# Altium footprint library F_POWER_V0.PcbLib: 27 footprints (part 1 of 2)
Each footprint in its own frame and in the unit in brackets; x right, y up, seen from the top. Pads: shape width x height; smd on the part's side, far side on the other; paste and mask are expansions set on the pad; w line width, h text height; cw(c..) or ccw(c..) is an arc to the next point about the centre after c.
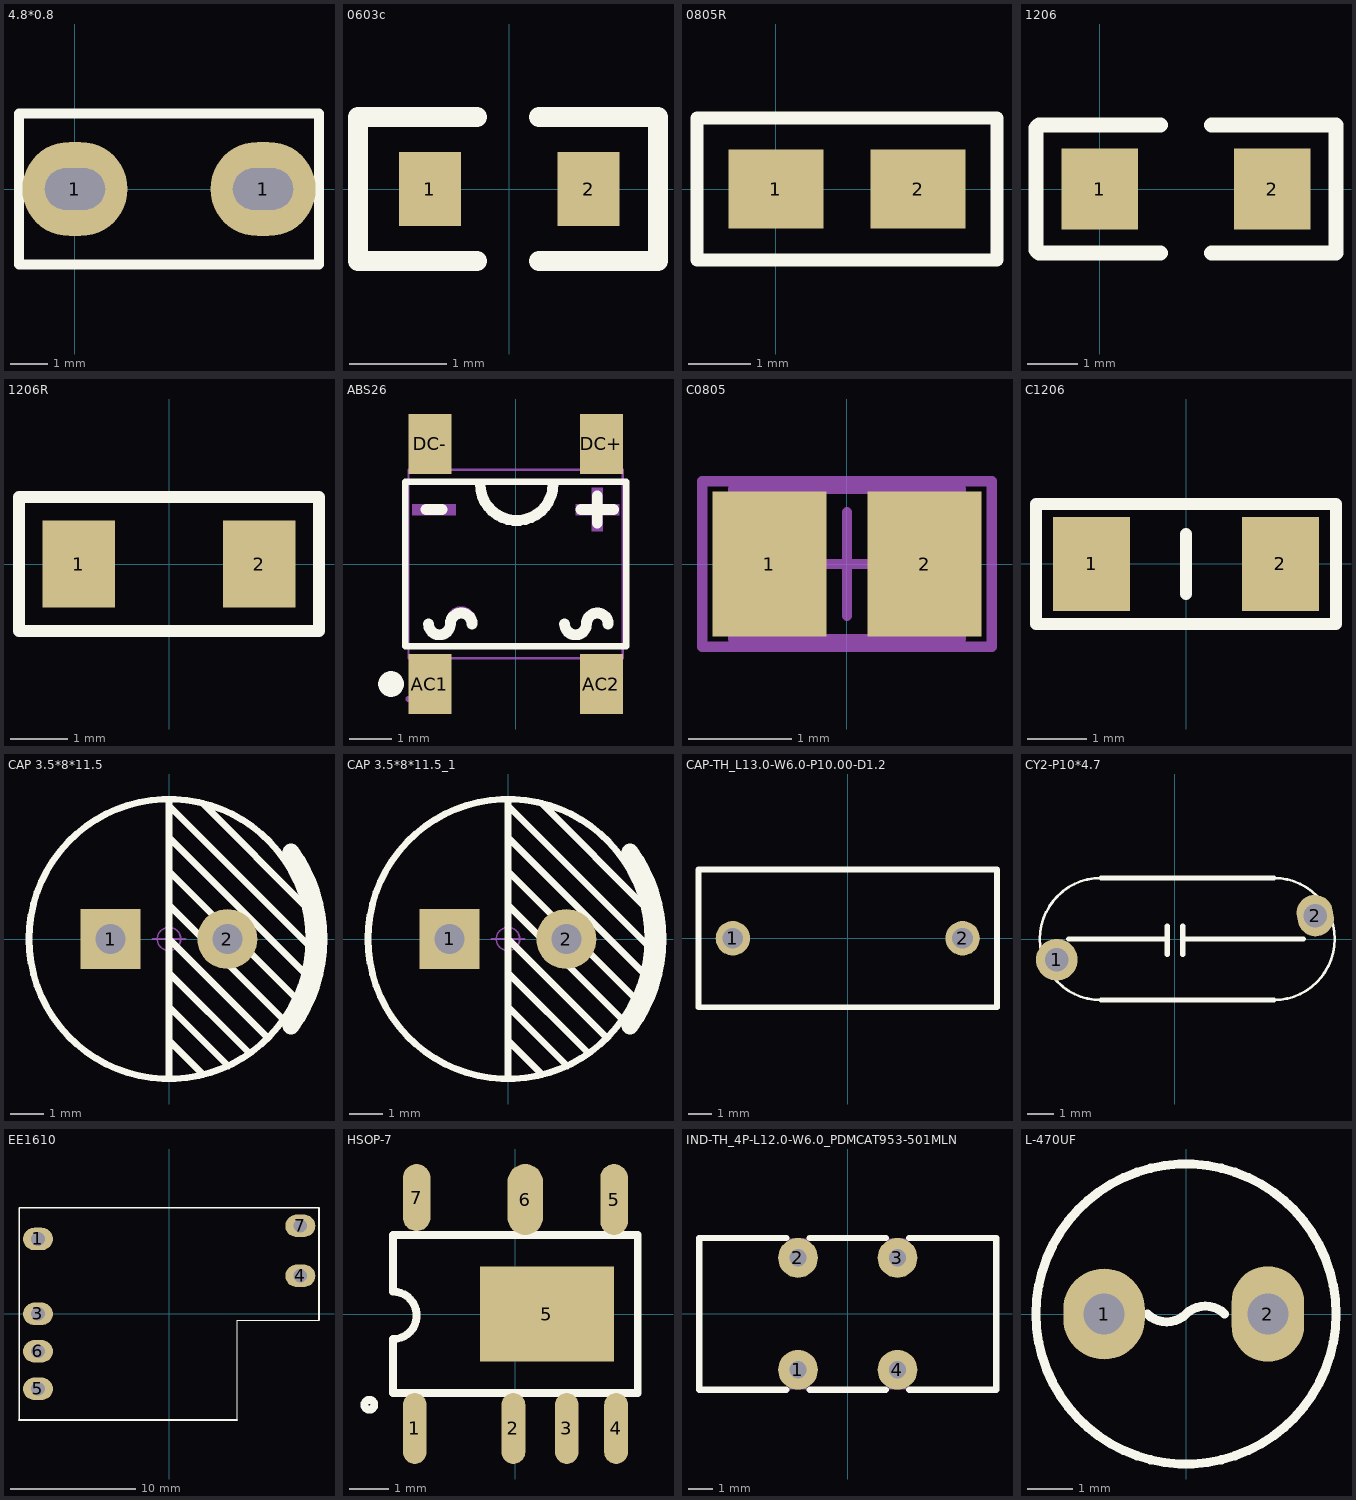
[diagram p0: the footprints below, top view; thin cyan lines are the x and y axes]

## 4.8*0.8 [mm]
pads (2):
  oval 2.8x2.5 hole 1.1 slot 1.6 at 0 deg: 1(0,0) 1(5,0)
Top Overlay:
  lines w0.254: -1.488,-2.007 6.488,-2.007 6.488,2.007 -1.488,2.007 -1.488,-2.007
3D body: height 9.3, standoff 0, extent 0,-0.41 5.14,0.39
3D body: height 2.3, standoff 0, extent -1.52,-0.41 6.49,0.39

## 0603c [mil] "1.6mmx0.8mm（蒜米工坊）"
height 19.68
pads (2):
  rect 25x30 smd: 1(-32,0) 2(32,0)
Top Overlay:
  lines w8: -13,-29 -61,-29 -61,29 -13,29 ; 12,-29 60,-29 60,29 12,29
3D body "R0603.STEP": height 17.72, standoff 0, extent -32.5,-15.75 30.5,15.75

## 0805R [mil]
height 43.31
pads (2):
  rect 60x50 smd: 1(0,0) 2(90,0)
Top Overlay:
  lines w8: -50,-45 65,-45 140,-45 140,45 65,45 -50,45 -50,-45
3D body "R0805.STEP": height 21.65, standoff 0, extent 4.63,-24.8 83.37,24.8

## 1206 [mm]
height 1.1
pads (2):
  rect 1.52x1.6 smd: 1(0,0) 2(3.42,0)
Top Overlay:
  lines w0.305: 1.202,-1.27 -1.211,-1.27 -1.27,-1.211 -1.27,1.211 -1.211,1.27 1.202,1.27 ; 2.218,-1.27 4.69,-1.27 4.69,1.27 2.218,1.27

## 1206R [mil]
height 43.31
pads (2):
  rect 50x60 smd: 1(-62,0) 2(62,0)
Top Overlay:
  lines w8: -103,-46 -103,46 40,46 103,46 103,-46 40,-46 -103,-46
3D body "R1206.STEP": height 23.62, standoff 0, extent -63.99,-32.49 62,30.5

## ABS26 [mm]
pads (4):
  rect 1x1.4 smd: AC1(-2,-2.8) AC2(2,-2.8) DC+(2,2.8) DC-(-2,2.8)
Top Overlay:
  circle w0.3: c-2.907,-2.8 r0.15
  lines w0.152: -2.576,-1.921 2.576,-1.921 2.576,1.921 -2.576,1.921 -2.576,-1.921
  lines w0.254: -2.095,1.27 -1.714,1.27 ; -2.032,-1.397 ccw(c-1.778,-1.397) -1.524,-1.397 cw(c-1.27,-1.397) -1.016,-1.397 ; -0.827,1.866 ccw(c0.023,1.866) 0.873,1.866 ; 1.143,-1.397 ccw(c1.397,-1.397) 1.651,-1.397 cw(c1.905,-1.397) 2.159,-1.397 ; 1.524,1.27 2.286,1.27 ; 1.905,0.953 1.905,1.587
Mechanical 6:
  circle w0.3: c-2,-2.9 r0.15
  region: -2.286,1.397 -1.397,1.397 -1.397,1.143 -2.413,1.143 -2.413,1.397
  region: 1.778,0.889 1.778,1.778 2.032,1.778 2.032,0.762 1.778,0.762
  region: 1.524,1.397 2.413,1.397 2.413,1.143 1.397,1.143 1.397,1.397
  region: 1.25,-1.4 1.1,-1.4 1.1,-1.45 1.1,-1.51 1.146,-1.62 1.23,-1.704 1.34,-1.75 1.4,-1.75 1.45,-1.75 1.51,-1.75 1.62,-1.704 1.704,-1.62 1.75,-1.51 1.75,-1.45 1.75,-1.4 1.6,-1.4 1.6,-1.45 1.597,-1.479 1.575,-1.533 1.533,-1.575 1.479,-1.597 1.45,-1.6 1.4,-1.6 1.371,-1.597 1.317,-1.575 1.275,-1.533 1.253,-1.479 1.25,-1.45
  region: 1.6,-1.4 1.6,-1.35 1.6,-1.29 1.646,-1.18 1.73,-1.096 1.84,-1.05 1.9,-1.05 1.95,-1.05 2.01,-1.05 2.12,-1.096 2.204,-1.18 2.25,-1.29 2.25,-1.35 2.25,-1.4 2.1,-1.4 2.1,-1.35 2.097,-1.321 2.075,-1.267 2.033,-1.225 1.979,-1.203 1.95,-1.2 1.9,-1.2 1.871,-1.203 1.817,-1.225 1.775,-1.267 1.753,-1.321 1.75,-1.35 1.75,-1.4
  region: -1.6,-1.35 -1.6,-1.3 -1.6,-1.24 -1.554,-1.13 -1.47,-1.046 -1.36,-1 -1.3,-1 -1.25,-1 -1.19,-1 -1.08,-1.046 -0.996,-1.13 -0.95,-1.24 -0.95,-1.3 -0.95,-1.35 -1.1,-1.35 -1.1,-1.3 -1.103,-1.271 -1.125,-1.217 -1.167,-1.175 -1.221,-1.153 -1.25,-1.15 -1.3,-1.15 -1.329,-1.153 -1.383,-1.175 -1.425,-1.217 -1.447,-1.271 -1.45,-1.3 -1.45,-1.35
  region: -1.95,-1.35 -2.1,-1.35 -2.1,-1.4 -2.1,-1.46 -2.054,-1.57 -1.97,-1.654 -1.86,-1.7 -1.8,-1.7 -1.75,-1.7 -1.69,-1.7 -1.58,-1.654 -1.496,-1.57 -1.45,-1.46 -1.45,-1.4 -1.45,-1.35 -1.6,-1.35 -1.6,-1.4 -1.603,-1.429 -1.625,-1.483 -1.667,-1.525 -1.721,-1.547 -1.75,-1.55 -1.8,-1.55 -1.829,-1.547 -1.883,-1.525 -1.925,-1.483 -1.947,-1.429 -1.95,-1.4
Mechanical 15:
  region: 1.675,2.66 1.675,2.19 2.325,2.19 2.325,2.66
  region: 1.675,3.15 1.675,2.65 2.325,2.65 2.325,3.15
  region: -2.325,2.66 -2.325,2.19 -1.675,2.19 -1.675,2.66
  region: -2.325,3.15 -2.325,2.65 -1.675,2.65 -1.675,3.15
  region: 1.675,-2.66 1.675,-2.19 2.325,-2.19 2.325,-2.66
  region: 1.675,-3.15 1.675,-2.65 2.325,-2.65 2.325,-3.15
  region: -2.325,-2.66 -2.325,-2.19 -1.675,-2.19 -1.675,-2.66
  region: -2.325,-3.15 -2.325,-2.65 -1.675,-2.65 -1.675,-3.15
  region: -2.44,-3.15 -2.44,-3.175 -2.475,-3.21 -2.525,-3.21 -2.56,-3.175 -2.56,-3.15 -2.56,-3.125 -2.525,-3.09 -2.475,-3.09 -2.44,-3.125
  lines w0.051: -2.5,-2.2 2.5,-2.2 2.5,2.2 -2.5,2.2 -2.5,-2.2
3D body: height 1.5, standoff 0, extent -2.59,-2.91 2.58,2.7

## C0805 [mm] "Chip Capacitor, Body 2.0x1.3mm, IPC High Density"
height 1.4
pads (2):
  rect 1.1x1.4 smd: 1(-0.75,0) 2(0.75,0)
Mechanical 13:
  lines w0.1: -1.1,-0.725 -1.1,0.725 1.1,0.725 1.1,-0.725 -1.1,-0.725
Mechanical 15:
  lines w0.1: -0.5,0 0.5,0 ; 0,-0.5 0,0.5 ; -1.4,-0.8 -1.4,0.8 1.4,0.8 1.4,-0.8 -1.4,-0.8
3D body: height 1.4, standoff 0, extent -1.1,-0.725 1.1,0.725

## C1206 [mm]
pads (2):
  rect 1.3x1.6 smd: 1(-1.6,0) 2(1.6,0)
Top Overlay:
  lines w0.2: 0,-0.508 0,0.508 ; -2.54,-1.016 2.54,-1.016 2.54,1.016 -2.54,1.016 -2.54,-1.016
3D body "User Library-1206_Cap.step": height 1.25, standoff 0, extent -1.6,-0.8 1.6,0.8

## CAP 3.5*8*11.5 [mm] "脚距3.5mm直径8mm高度11.5mm"
height 1.1
pads (2):
  rect 1.8x1.8 hole 0.9: 1(-1.75,0)
  round 1.8 hole 0.9: 2(1.75,0)
Top Overlay:
  circle w0.2: c0,0 r4.2
  lines w0.2: 0,-4.191 0,4 ; 0,-3.048 1.016,-4.064 ; 0,-2.032 1.778,-3.81 ; 0,-1.016 2.413,-3.429 ; 0,0 2.921,-2.921 ; 0,1.016 3.429,-2.413 ; 0,2.032 3.81,-1.778 ; 0,3.048 4.064,-1.016 ; 0,4.191 0,4 ; 1.016,4.064 4.191,0.889 ; 4.191,-0.127 4.127,-0.127 0,4
  lines w0.504: 3.663,-2.616 ccw(c0,0) 3.663,2.616
Mechanical 15:
  circle w0.05: c0,0 r0.35
  lines w0.05: -0.5,0 0.5,0 ; 0,-0.5 0,0.5
3D body "CAP 3.5X8X11.5.STEP": height 11.53, standoff -3.38, extent -4,-4 4.01,4

## CAP 3.5*8*11.5_1 [mm] "脚距3.5mm直径8mm高度11.5mm"
pads (2):
  rect 1.8x1.8 hole 0.9: 1(-1.75,0)
  round 1.8 hole 0.9: 2(1.75,0)
Top Overlay:
  circle w0.2: c0,0 r4.2
  lines w0.2: 0,-4.191 0,4 ; 0,-3.048 1.016,-4.064 ; 0,-2.032 1.778,-3.81 ; 0,-1.016 2.413,-3.429 ; 0,0 2.921,-2.921 ; 0,1.016 3.429,-2.413 ; 0,2.032 3.81,-1.778 ; 0,3.048 4.064,-1.016 ; 0,4.191 0,4 ; 1.016,4.064 4.191,0.889 ; 4.191,-0.127 4.127,-0.127 0,4
  lines w0.504: 3.663,-2.616 ccw(c0,0) 3.663,2.616
Mechanical 15:
  circle w0.05: c0,0 r0.35
  lines w0.05: -0.5,0 0.5,0 ; 0,-0.5 0,0.5
3D body "CAP 3.5X8X11.5.STEP": height 11.53, standoff -3.38, extent -4,-4 4.01,4

## CAP-TH_L13.0-W6.0-P10.00-D1.2 [mm]
pads (2):
  round 1.5 hole 0.9: 1(-5,0) 2(5,0)
Top Overlay:
  lines w0.254: -6.5,-3 6.5,-3 6.5,3 -6.5,3 -6.5,-3
Mechanical 15:
  region: -6.44,-3 -6.44,-2.975 -6.475,-2.94 -6.525,-2.94 -6.56,-2.975 -6.56,-3 -6.56,-3.025 -6.525,-3.06 -6.475,-3.06 -6.44,-3.025
  region: 5.3,0 5.299,0.059 5.252,0.167 5.168,0.25 5.059,0.294 4.941,0.294 4.832,0.25 4.748,0.167 4.701,0.059 4.7,0 4.701,-0.059 4.748,-0.167 4.832,-0.25 4.941,-0.294 5.059,-0.294 5.168,-0.25 5.252,-0.167 5.299,-0.059
  region: -4.7,0 -4.701,0.059 -4.748,0.167 -4.832,0.25 -4.941,0.294 -5.059,0.294 -5.168,0.25 -5.252,0.167 -5.299,0.059 -5.3,0 -5.299,-0.059 -5.252,-0.167 -5.168,-0.25 -5.059,-0.294 -4.941,-0.294 -4.832,-0.25 -4.748,-0.167 -4.701,-0.059
  lines w0.051: -6.5,-3 -6.5,3 6.5,3 6.5,-3 -6.5,-3
3D body: height 12.5, standoff 0, extent -6.47,-2.97 6.51,2.94

## CY2-P10*4.7 [mm]
pads (2):
  round 1.6 hole 0.9: 1(-4.55,-0.8)
  oval 1.4x1.6 hole 0.9 rot 10: 2(5.4,0.9)
Top Overlay:
  lines w0.1: -2.85,-2.35 cw(c-2.85,0) -2.85,2.35 ; 3.8,-2.35 ccw(c3.8,0) 3.8,2.35
  lines w0.2: -4.1,0 -0.3,0 ; -2.85,-2.35 3.8,-2.35 ; -2.85,2.35 3.8,2.35 ; -0.3,-0.6 -0.3,0.5 ; 0.3,-0.6 0.3,0.5 ; 0.3,0 4.95,0
3D body: height 8, standoff 0, extent -4.96,-2.12 5.88,2.13

## EE1610 [mm]
pads (7):
  oval 2.4x1.8 hole 1.1: 1(-10.5,6) 3(-10.5,0) 5(-10.5,-6) 7(10.5,7.05)
  round 0 all layers, no hole: 2(-10.5,3)
  oval 2.4x1.8 hole 1.1 paste+0: 4(10.5,3.05) 6(-10.5,-3)
Top Overlay:
  lines w0.1: 5.44,-8.5 5.44,-0.5 11.97,-0.5 12,-0.53
  lines w0.127: -12.02,-8.5 5.44,-8.5 ; -12,-8.52 -12,8.48 -11.98,8.5 11.99,8.5 ; 12,-0.5 12,8.5
Keep-Out Layer:
  lines w0.1: 3.1,-8.49 3.15,-8.49 3.16,-8.48
3D body: height 15.5, standoff 0, extent -12,-8.51 11.97,8.51

## HSOP-7 [mm]
pads (8):
  oval 0.6x1.8 smd: 1(-2.55,-2.9) 2(-0.05,-2.9) 3(1.3,-2.9) 4(2.55,-2.9)
  rect 3.4x2.4 smd: 5(0.8,0)
  oval 0.7x1.8 smd: 5(2.5,2.9)
  oval 0.9x1.8 smd: 6(0.25,2.9)
  oval 0.7x1.7 smd: 7(-2.5,2.95)
Top Overlay:
  circle w0.2: c-3.7,-2.3 r0.125
  lines w0.2: -3.1,0.565 cw(c-3.1,-0.035) -3.1,-0.635 -3.1,-2 3.1,-2 3.1,2 -3.1,2 -3.1,0.635
3D body: height 2.5, standoff 0, extent -3.175,-2.667 3.302,2.54

## IND-TH_4P-L12.0-W6.0_PDMCAT953-501MLN [mm]
height 1.1
pads (4):
  round 1.6 hole 0.7: 1(-2,-2.25) 2(-2,2.25) 3(2,2.25) 4(2,-2.25)
Top Overlay:
  lines w0.254: -2.477,-3.048 -5.969,-3.048 -5.969,3.048 -2.477,3.048 ; -1.523,-3.048 1.523,-3.048 ; -1.523,3.048 1.523,3.048 ; 2.477,-3.048 5.969,-3.048 5.969,3.048 2.477,3.048
Mechanical 15:
  region: -5.94,-3 -5.94,-2.975 -5.975,-2.94 -6.025,-2.94 -6.06,-2.975 -6.06,-3 -6.06,-3.025 -6.025,-3.06 -5.975,-3.06 -5.94,-3.025
  region: 2.25,-2.25 2.25,-2.201 2.211,-2.109 2.141,-2.04 2.049,-2.002 1.95,-2.002 1.859,-2.04 1.789,-2.109 1.75,-2.201 1.75,-2.25 1.75,-2.3 1.789,-2.391 1.859,-2.461 1.951,-2.498 2.05,-2.498 2.141,-2.46 2.211,-2.391 2.25,-2.3
  region: 2.25,2.25 2.25,2.299 2.211,2.391 2.141,2.46 2.049,2.498 1.95,2.498 1.859,2.46 1.789,2.391 1.75,2.299 1.75,2.25 1.75,2.2 1.789,2.109 1.859,2.039 1.951,2.002 2.05,2.002 2.141,2.039 2.211,2.109 2.25,2.2
  region: -1.75,2.25 -1.75,2.299 -1.789,2.391 -1.859,2.46 -1.951,2.498 -2.049,2.498 -2.141,2.46 -2.211,2.391 -2.25,2.299 -2.25,2.25 -2.25,2.2 -2.211,2.109 -2.141,2.039 -2.049,2.002 -1.95,2.002 -1.859,2.039 -1.789,2.109 -1.75,2.2
  region: -1.75,-2.25 -1.75,-2.201 -1.789,-2.109 -1.859,-2.04 -1.951,-2.002 -2.049,-2.002 -2.141,-2.04 -2.211,-2.109 -2.25,-2.201 -2.25,-2.25 -2.25,-2.3 -2.211,-2.391 -2.141,-2.461 -2.049,-2.498 -1.95,-2.498 -1.859,-2.46 -1.789,-2.391 -1.75,-2.3
  lines w0.051: -6,-3 -6,3 6,3 6,-3 -6,-3
3D body: height 12.5, standoff 0, extent -5.95,-3.03 5.96,3.06

## L-470UF [mm]
pads (2):
  oval 1.8x2 hole 0.9: 1(-1.8,0)
  oval 1.6x2.1 hole 0.9: 2(1.8,0)
Top Overlay:
  circle w0.2: c0,0 r3.3
  lines w0.2: -0.849,0 ccw(c-0.424,0.424) 0,0 cw(c0.424,-0.424) 0.849,0